# Altium footprint library Atmega328.PcbLib: 1 footprints
Each footprint in its own frame and in the unit in brackets; x right, y up, seen from the top. Pads: shape width x height; smd on the part's side, far side on the other; paste and mask are expansions set on the pad; w line width, h text height; cw(c..) or ccw(c..) is an arc to the next point about the centre after c.
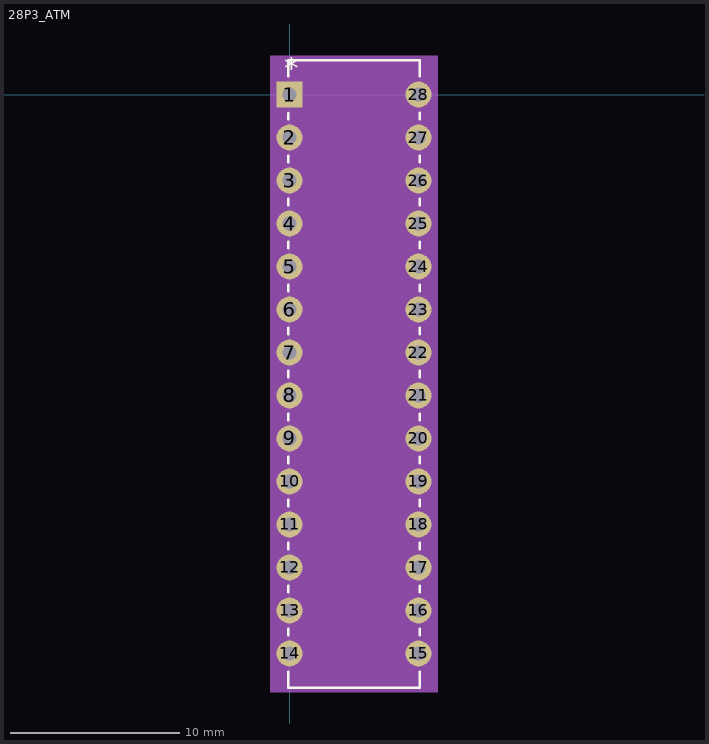
[diagram p0: the footprint, top view; thin cyan lines are the x and y axes]

## 28P3_ATM [mil]
pads (28):
  rect 60x60 hole 32 mask+0: 1(0,0)
  round 60 hole 32 mask+0: 2(0,-100) 3(0,-200) 4(0,-300) 5(0,-400) 6(0,-500) 7(0,-600) 8(0,-700) 9(0,-800) 10(0,-900) 11(0,-1000) 12(0,-1100) 13(0,-1200) 14(0,-1300) 15(300,-1300) 16(300,-1200) 17(300,-1100) 18(300,-1000) 19(300,-900) 20(300,-800) 21(300,-700) 22(300,-600) 23(300,-500) 24(300,-400) 25(300,-300) 26(300,-200) 27(300,-100) 28(300,0)
Top Overlay:
  lines w6: -2.5,-1343.03 -2.5,-1380 302.5,-1380 302.5,-1343.03 ; -2.5,-1256.97 -2.5,-1243.03 ; -2.5,-1156.97 -2.5,-1143.03 ; -2.5,-1056.97 -2.5,-1043.03 ; -2.5,-956.97 -2.5,-943.03 ; -2.5,-856.97 -2.5,-843.03 ; -2.5,-756.97 -2.5,-743.03 ; -2.5,-656.97 -2.5,-643.03 ; -2.5,-556.97 -2.5,-543.03 ; -2.5,-456.97 -2.5,-443.03 ; -2.5,-356.97 -2.5,-343.03 ; -2.5,-256.97 -2.5,-243.03 ; -2.5,-156.97 -2.5,-143.03 ; -2.5,-56.97 -2.5,-43.1 ; -2.5,43.1 -2.5,80 302.5,80 302.5,43.03 ; 302.5,-1256.97 302.5,-1243.03 ; 302.5,-1156.97 302.5,-1143.03 ; 302.5,-1056.97 302.5,-1043.03 ; 302.5,-956.97 302.5,-943.03 ; 302.5,-856.97 302.5,-843.03 ; 302.5,-756.97 302.5,-743.03 ; 302.5,-656.97 302.5,-643.03 ; 302.5,-556.97 302.5,-543.03 ; 302.5,-456.97 302.5,-443.03 ; 302.5,-356.97 302.5,-343.03 ; 302.5,-256.97 302.5,-243.03 ; 302.5,-156.97 302.5,-143.03 ; 302.5,-56.97 302.5,-43.03
  text "*" at -12.5,35 h50
Mechanical 5:
  region: 345,-1390 -45,-1390 -45,90 345,90
Mechanical 13:
  lines w0: 138,75 ccw(c150,75) 162,75
  lines w1: -16,-1316 -16,-1284 2.5,-1284 2.5,-1316 -16,-1316 ; -16,-1216 -16,-1184 2.5,-1184 2.5,-1216 -16,-1216 ; -16,-1116 -16,-1084 2.5,-1084 2.5,-1116 -16,-1116 ; -16,-1016 -16,-984 2.5,-984 2.5,-1016 -16,-1016 ; -16,-916 -16,-884 2.5,-884 2.5,-916 -16,-916 ; -16,-816 -16,-784 2.5,-784 2.5,-816 -16,-816 ; -16,-716 -16,-684 2.5,-684 2.5,-716 -16,-716 ; -16,-616 -16,-584 2.5,-584 2.5,-616 -16,-616 ; -16,-516 -16,-484 2.5,-484 2.5,-516 -16,-516 ; -16,-416 -16,-384 2.5,-384 2.5,-416 -16,-416 ; -16,-316 -16,-284 2.5,-284 2.5,-316 -16,-316 ; -16,-216 -16,-184 2.5,-184 2.5,-216 -16,-216 ; -16,-116 -16,-84 2.5,-84 2.5,-116 -16,-116 ; -16,-16 -16,16 2.5,16 2.5,-16 -16,-16 ; 2.5,-1375 297.5,-1375 297.5,75 2.5,75 2.5,-1375 ; 297.5,-1316 297.5,-1284 316,-1284 316,-1316 297.5,-1316 ; 297.5,-1216 297.5,-1184 316,-1184 316,-1216 297.5,-1216 ; 297.5,-1116 297.5,-1084 316,-1084 316,-1116 297.5,-1116 ; 297.5,-1016 297.5,-984 316,-984 316,-1016 297.5,-1016 ; 297.5,-916 297.5,-884 316,-884 316,-916 297.5,-916 ; 297.5,-816 297.5,-784 316,-784 316,-816 297.5,-816 ; 297.5,-716 297.5,-684 316,-684 316,-716 297.5,-716 ; 297.5,-616 297.5,-584 316,-584 316,-616 297.5,-616 ; 297.5,-516 297.5,-484 316,-484 316,-516 297.5,-516 ; 297.5,-416 297.5,-384 316,-384 316,-416 297.5,-416 ; 297.5,-316 297.5,-284 316,-284 316,-316 297.5,-316 ; 297.5,-216 297.5,-184 316,-184 316,-216 297.5,-216 ; 297.5,-116 297.5,-84 316,-84 316,-116 297.5,-116 ; 297.5,-16 297.5,16 316,16 316,-16 297.5,-16
  text "*" at 0,-25 h50
Mechanical 15:
  region: 307.5,-1340 340,-1340 340,40 307.5,40 307.5,85 -7.5,85 -7.5,40 -40,40 -40,-1340 -7.5,-1340 -7.5,-1385 307.5,-1385
  lines w6: -40,-1340 -40,40 -7.5,40 -7.5,85 307.5,85 307.5,40 340,40 340,-1340 307.5,-1340 307.5,-1385 -7.5,-1385 -7.5,-1340 -40,-1340
3D body: height 10, standoff 0, extent 0,0 10,10
3D body "28P3_ATM.step": height 205.12, standoff -100, extent -10.14,-1374.02 309.35,75.98